# EAGLE library part IRF7103 (library gost_transistors)
IRF7103 Dual N-ch 50V 0.130Ω HEXFET® Power MOSFET
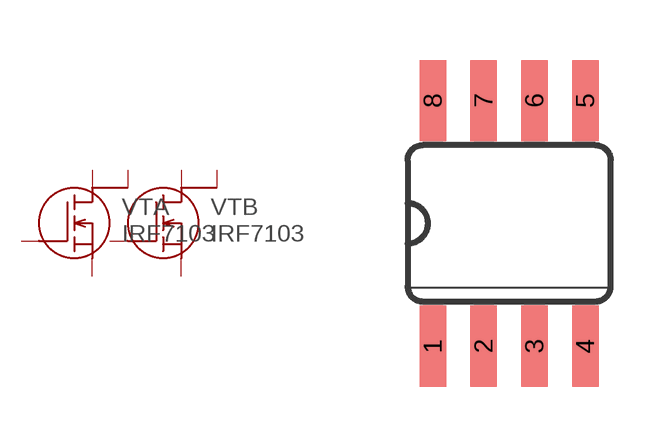
[diagram p0: symbol with the pads of SO08; footprint SO08]

Designator prefix VT; gates A=IRF-2_N-CHANNEL-MOSFET B=IRF-2_N-CHANNEL-MOSFET

## IRF7103  [SO08]
1  A:S  pas
2  A:G  pas
3  B:S  pas
4  B:G  pas
5  B:D  pas
6  B:D  pas
7  A:D  pas
8  A:D  pas

## Footprint SO08 (pad centres in mm)
Small Outline package 8 150 mil
smd 0.66 x 2.032: 1 -1.905,-3.073; 2 -0.635,-3.073; 3 0.635,-3.073; 4 1.905,-3.073; 5 1.905,3.073; 6 0.635,3.073; 7 -0.635,3.073; 8 -1.905,3.073